# EAGLE library part M20-8891045 (library M20-8891045)
Headers & Wire Housings 10 WAY SIL HORIZ SMT P/HDR Source: Datasheet <https://cdn.harwin.com/pdfs/M20-889.pdf>
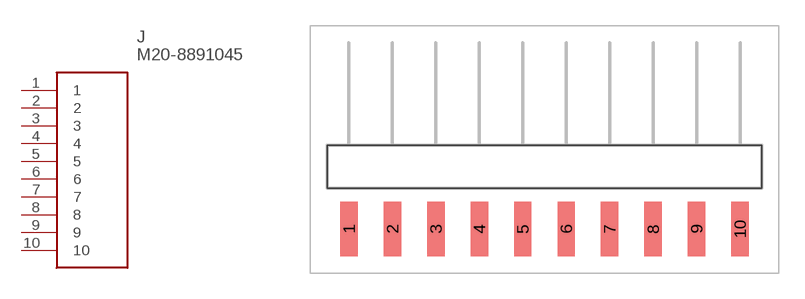
[diagram p0: symbol with the pads of M208891045; footprint M208891045]

Designator prefix J

## M20-8891045 (Description: Headers & Wire Housings 10 WAY SIL HORIZ SMT P/HDR; Height: 2.65mm; Manufacturer_Name: Harwin; Manufacturer_Part_Number: M20-8891045; Mouser_Part_Number: 855-M20-8891045; Mouser_Price-Stock: https://www.mouser.co.uk/ProductDetail/Harwin/M20-8891045?qs=k41KVqW3ymoWRIXfp5Ho2g%3D%3D)  [M208891045]
1  1
2  2
3  3
4  4
5  5
6  6
7  7
8  8
9  9
10  10

## Footprint M208891045 (pad centres in mm)
M20-8891045-2
smd 1.02 x 3.17: 1 -11.43,-5.443; 2 -8.89,-5.443; 3 -6.35,-5.443; 4 -3.81,-5.443; 5 -1.27,-5.443; 6 1.27,-5.443; 7 3.81,-5.443; 8 6.35,-5.443; 9 8.89,-5.443; 10 11.43,-5.443